# EAGLE library part 74HCT257D,653 (library SamacSys_Parts)
74HC(T)257 - Quad 2-input multiplexer; 3-state@en-us Source: Datasheet <https://componentsearchengine.com/Datasheets/1/74HCT257D,653.pdf>
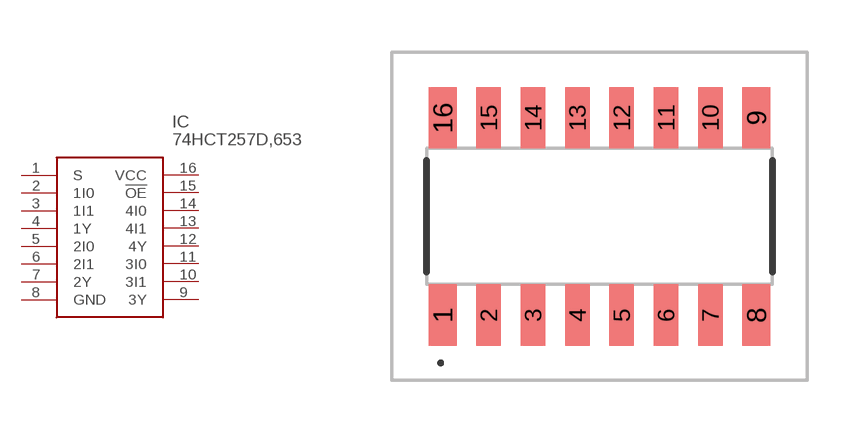
[diagram p164: symbol with the pads of 74HCT257D653; footprint 74HCT257D653]

Designator prefix IC

## 74HCT257D,653 (DESCRIPTION: 74HC(T)257 - Quad 2-input multiplexer; 3-state@en-us; HEIGHT: 1.75mm; MANUFACTURER_NAME: Nexperia; MANUFACTURER_PART_NUMBER: 74HCT257D,653; MOUSER_PART_NUMBER: 771-HCT257D653; MOUSER_PRICE-STOCK: https://www.mouser.com/Search/Refine.aspx?Keyword=771-HCT257D653)  [74HCT257D653]
1  S
2  1I0
3  1I1
4  1Y
5  2I0
6  2I1
7  2Y
8  GND
9  3Y
10  3I1
11  3I0
12  4Y
13  4I1
14  4I0
15  !OE
16  VCC

## Footprint 74HCT257D653 (pad centres in mm)
74HCT257D,653-2
smd 0.8 x 1.75: 1 -4.495,-2.825; 8 4.495,-2.825; 9 4.495,2.825; 16 -4.495,2.825
smd 0.7 x 1.75: 2 -3.175,-2.825; 3 -1.905,-2.825; 4 -0.635,-2.825; 5 0.635,-2.825; 6 1.905,-2.825; 7 3.175,-2.825; 10 3.175,2.825; 11 1.905,2.825; 12 0.635,2.825; 13 -0.635,2.825; 14 -1.905,2.825; 15 -3.175,2.825